# Altium footprint library PAD_2mm.PcbLib: 1 footprints
Each footprint in its own frame and in the unit in brackets; x right, y up, seen from the top. Pads: shape width x height; smd on the part's side, far side on the other; paste and mask are expansions set on the pad; w line width, h text height; cw(c..) or ccw(c..) is an arc to the next point about the centre after c.
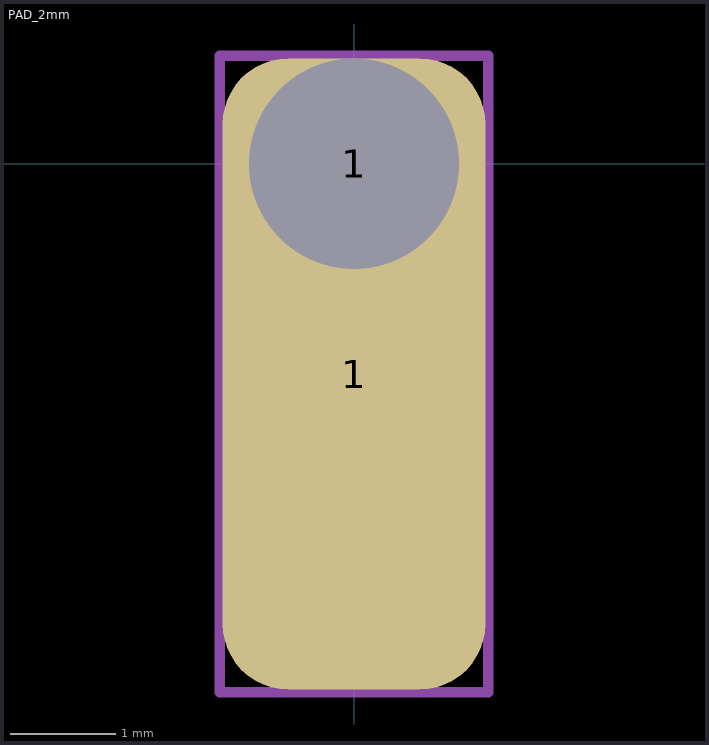
[diagram p0: the footprint, top view; thin cyan lines are the x and y axes]

## PAD_2mm [mm]
pads (2):
  rrect50% 2.5x6 smd paste-5 mask+0.05: 1(0,-2)
  rrect50% 1.4x1.4 hole 2: 1(0,0)
Top Courtyard:
  lines w0.1: -1.275,-5.025 -1.275,1.025 1.275,1.025 1.275,-5.025 -1.275,-5.025